# Altium footprint library SamacSys.PcbLib: 128 footprints (part 3 of 8)
Each footprint in its own frame and in the unit in brackets; x right, y up, seen from the top. Pads: shape width x height; smd on the part's side, far side on the other; paste and mask are expansions set on the pad; w line width, h text height; cw(c..) or ccw(c..) is an arc to the next point about the centre after c.
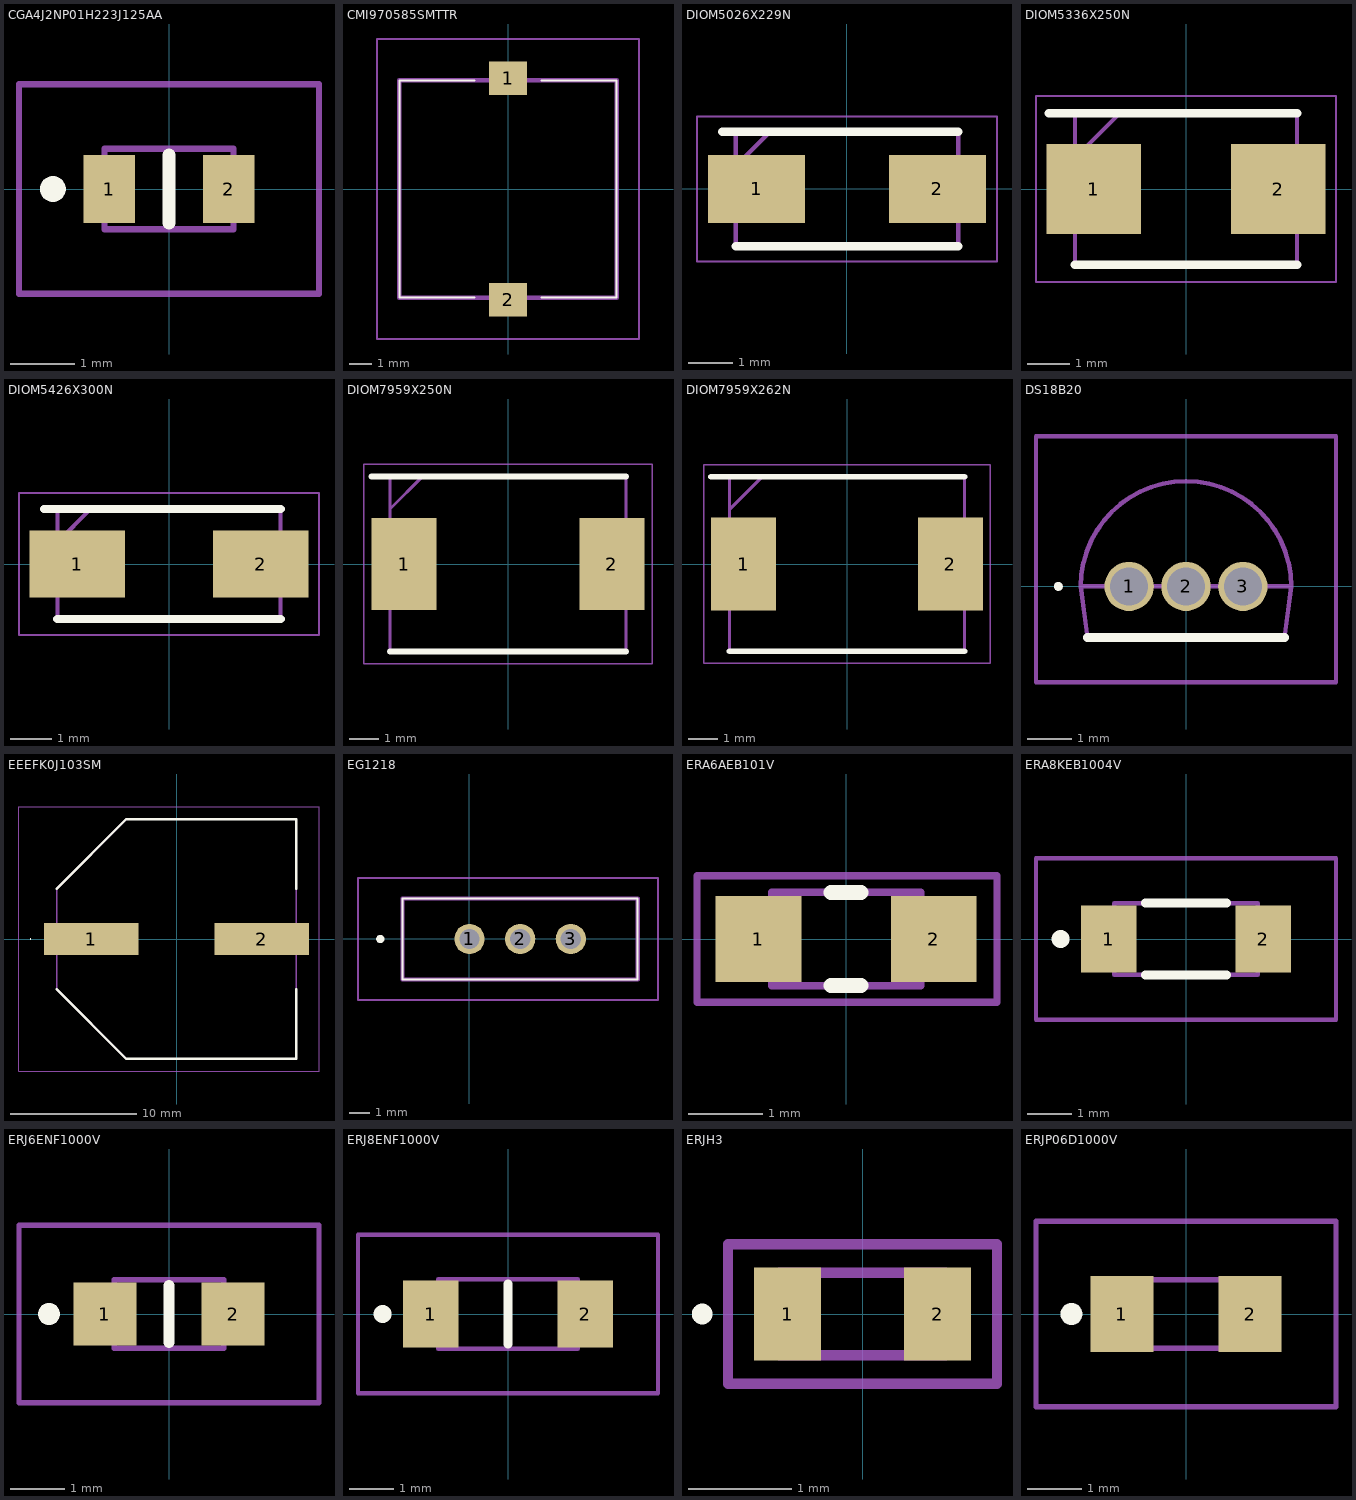
[diagram p2: the footprints below, top view; thin cyan lines are the x and y axes]

## CGA4J2NP01H223J125AA [mm]
pads (2):
  rect 0.8x1.05 smd: 1(-0.925,0) 2(0.925,0)
Top Overlay:
  lines w0.2: 0,-0.525 0,0.525 ; -1.8,-0.1 ccw(c-1.8,0) -1.8,0.1 ccw(c-1.8,0) -1.8,-0.1
Mechanical 13:
  lines w0.1: -1,-0.625 -1,0.625 1,0.625 1,-0.625 -1,-0.625
Mechanical 15:
  lines w0.1: -2.325,-1.625 -2.325,1.625 2.325,1.625 2.325,-1.625 -2.325,-1.625
3D body "CGA4J3X8R1H224K125AB.stp": height 1.45, standoff 0, extent -1,-0.625 1,0.625

## CMI970585SMTTR [mm]
pads (2):
  rect 1.7x1.5 smd: 1(0,4.95) 2(0,-4.95)
Top Overlay:
  lines w0.1: -1.5,-4.85 -4.85,-4.85 -4.85,4.85 -1.5,4.85 ; 1.5,-4.85 4.85,-4.85 4.85,4.85 1.5,4.85
Mechanical 13:
  lines w0.2: -4.85,-4.85 -4.85,4.85 4.85,4.85 4.85,-4.85 -4.85,-4.85
Mechanical 15:
  lines w0.1: -5.85,-6.7 -5.85,6.7 5.85,6.7 5.85,-6.7 -5.85,-6.7
3D body "CMI-9705-85-SMT-TR.stp": height 5.05, standoff -5.05, extent -4.85,-0.2 4.85,5

## DIOM5026X229N [mm]
pads (2):
  rect 2.2x1.55 smd: 1(-2.05,0) 2(2.05,0)
Top Overlay:
  lines w0.2: -2.825,1.298 2.52,1.298 ; -2.52,-1.298 2.52,-1.298
Mechanical 13:
  lines w0.1: -2.52,0.522 -1.745,1.298 ; -2.52,-1.298 -2.52,1.298 2.52,1.298 2.52,-1.298 -2.52,-1.298
Mechanical 15:
  lines w0.05: -3.4,-1.645 -3.4,1.645 3.4,1.645 3.4,-1.645 -3.4,-1.645
3D body "SMAJ26A.stp": height 2.29, standoff 0, extent -2.52,-1.298 2.52,1.298

## DIOM5336X250N [mm]
pads (2):
  rect 2.25x2.15 smd: 1(-2.2,0) 2(2.2,0)
Top Overlay:
  lines w0.2: -3.275,1.81 2.648,1.81 ; -2.648,-1.81 2.648,-1.81
Mechanical 13:
  lines w0.1: -2.648,0.735 -1.572,1.81 ; -2.648,-1.81 -2.648,1.81 2.648,1.81 2.648,-1.81 -2.648,-1.81
Mechanical 15:
  lines w0.05: -3.575,-2.22 -3.575,2.22 3.575,2.22 3.575,-2.22 -3.575,-2.22
3D body "SMBJ14A-13-F.stp": height 2.3, standoff 0, extent -2.679,-1.752 2.681,1.748

## DIOM5426X300N [mm]
pads (2):
  rect 2.3x1.6 smd: 1(-2.2,0) 2(2.2,0)
Top Overlay:
  lines w0.2: -3,1.322 2.68,1.322 ; -2.68,-1.322 2.68,-1.322
Mechanical 13:
  lines w0.1: -2.68,0.522 -1.88,1.322 ; -2.68,-1.322 2.68,-1.322 2.68,1.322 -2.68,1.322 -2.68,-1.322
Mechanical 15:
  lines w0.05: -3.6,-1.7 3.6,-1.7 3.6,1.7 -3.6,1.7 -3.6,-1.7
3D body "RGF1M-E3_67A.stp": height 3, standoff 0, extent -2.68,-1.322 2.68,1.322

## DIOM7959X250N [mm]
pads (2):
  rect 2.2x3.1 smd: 1(-3.5,0) 2(3.5,0)
Top Overlay:
  lines w0.2: -4.6,2.952 3.97,2.952 ; -3.97,-2.952 3.97,-2.952
Mechanical 13:
  lines w0.1: -3.97,1.852 -2.87,2.952 ; -3.97,-2.952 -3.97,2.952 3.97,2.952 3.97,-2.952 -3.97,-2.952
Mechanical 15:
  lines w0.05: -4.85,-3.36 -4.85,3.36 4.85,3.36 4.85,-3.36 -4.85,-3.36
3D body "B560C-13-F.stp": height 2.5, standoff 0, extent -3.97,-2.953 3.97,2.953

## DIOM7959X262N [mm]
pads (2):
  rect 2.2x3.15 smd: 1(-3.5,0) 2(3.5,0)
Top Overlay:
  lines w0.2: -4.6,2.952 3.97,2.952 ; -3.97,-2.952 3.97,-2.952
Mechanical 13:
  lines w0.1: -3.97,1.852 -2.87,2.952 ; -3.97,-2.952 -3.97,2.952 3.97,2.952 3.97,-2.952 -3.97,-2.952
Mechanical 15:
  lines w0.05: -4.85,-3.36 -4.85,3.36 4.85,3.36 4.85,-3.36 -4.85,-3.36
3D body "SSC54-E3_57T.stp": height 2.62, standoff 0, extent -3.97,-2.953 3.97,2.953

## DS18B20 [mm]
pads (3):
  round 1.1 hole 0.85: 1(-1.27,0) 2(0,0) 3(1.27,0)
Top Overlay:
  lines w0.1: -2.9,0 ccw(c-2.85,0) -2.8,0 ccw(c-2.85,0) -2.9,0
  lines w0.2: -2.2,-1.14 2.2,-1.14
Mechanical 13:
  lines w0.1: -2.35,0 cw(c0,0) 2.35,0 ; -2.35,0 -2.2,-1.14 2.2,-1.14 2.35,0 ; -2.35,0 2.35,0
Mechanical 15:
  lines w0.1: -3.35,-2.14 -3.35,3.35 3.35,3.35 3.35,-2.14 -3.35,-2.14
3D body "DS18B20+.stp": height 5.33, standoff -12.7, extent -2.836,-1.1 2.974,3.078

## EEEFK0J103SM [mm]
pads (2):
  rect 7.5x2.5 smd: 1(-6.75,0) 2(6.75,0)
Top Overlay:
  lines w0.05: -11.625,0 cw(c-11.6,0) -11.575,0 cw(c-11.6,0) -11.625,0
  lines w0.2: -9.5,-4 -4,-9.5 9.5,-9.5 9.5,-4 ; -9.5,4 -4,9.5 9.5,9.5 9.5,4
Mechanical 13:
  lines w0.1: -9.5,4 -4,9.5 ; -9.5,4 -9.5,-4 -4,-9.5 9.5,-9.5 9.5,9.5 -4,9.5 ; -9.5,4 -4,9.5
Mechanical 15:
  lines w0.05: -12.5,-10.5 -12.5,10.5 11.3,10.5 11.3,-10.5 -12.5,-10.5
3D body "EEE-FK1V222SM.stp": height 16.5, standoff 0, extent -10.2,-9.5 10.2,9.5

## EG1218 [mm]
pads (3):
  round 1.5 hole 1: 1(0,0) 2(2.5,0) 3(5,0)
Top Overlay:
  lines w0.1: -3.3,-2 -3.3,2 8.3,2 8.3,-2 -3.3,-2
  lines w0.2: -4.5,0 cw(c-4.4,0) -4.3,0 cw(c-4.4,0) -4.5,0
Mechanical 13:
  lines w0.2: -3.3,-2 -3.3,2 8.3,2 8.3,-2 -3.3,-2
Mechanical 15:
  lines w0.1: -5.5,-3 -5.5,3 9.3,3 9.3,-3 -5.5,-3
3D body "EG1218.stp": height 7.14, standoff -4.96, extent -3.31,-2 8.29,2

## ERA6AEB101V [mm]
pads (2):
  rect 1.15x1.15 smd: 1(-1.175,0) 2(1.175,0)
Top Overlay:
  lines w0.2: -0.2,-0.625 0.2,-0.625 ; -0.2,0.625 0.2,0.625
Mechanical 13:
  lines w0.1: -1,-0.625 1,-0.625 1,0.625 -1,0.625 -1,-0.625
Mechanical 15:
  lines w0.1: -2,-0.85 2.025,-0.85 2.025,0.85 -2,0.85 -2,-0.85
3D body "ERA-6AEB1212V.stp": height 0.5, standoff 0, extent -1,-0.625 1,0.625

## ERA8KEB1004V [mm]
pads (2):
  rect 1.25x1.5 smd: 1(-1.725,0) 2(1.725,0)
Top Overlay:
  lines w0.2: -0.9,-0.8 0.9,-0.8 ; -0.9,0.8 0.9,0.8 ; -2.8,-0.1 cw(c-2.8,0) -2.8,0.1 cw(c-2.8,0) -2.8,-0.1
Mechanical 13:
  lines w0.1: -1.6,-0.8 1.6,-0.8 1.6,0.8 -1.6,0.8 -1.6,-0.8
Mechanical 15:
  lines w0.1: -3.35,-1.8 3.35,-1.8 3.35,1.8 -3.35,1.8 -3.35,-1.8
3D body "ERA-8VEB4750V.stp": height 0.65, standoff 0, extent -1.6,-0.8 1.6,0.8

## ERJ6ENF1000V [mm]
pads (2):
  rect 1.15x1.15 smd: 1(-1.175,0) 2(1.175,0)
Top Overlay:
  lines w0.2: 0,-0.525 0,0.525 ; -2.2,-0.1 ccw(c-2.2,0) -2.2,0.1 ccw(c-2.2,0) -2.2,-0.1
Mechanical 13:
  lines w0.1: -1,-0.625 -1,0.625 1,0.625 1,-0.625 -1,-0.625
Mechanical 15:
  lines w0.1: -2.75,-1.625 -2.75,1.625 2.75,1.625 2.75,-1.625 -2.75,-1.625
3D body "ERJ-6ENF2741V.stp": height 0.6, standoff 0, extent -1,-0.625 1,0.625

## ERJ8ENF1000V [mm]
pads (2):
  rect 1.25x1.5 smd: 1(-1.725,0) 2(1.725,0)
Top Overlay:
  lines w0.2: 0,-0.675 0,0.675 ; -2.8,-0.1 cw(c-2.8,0) -2.8,0.1 cw(c-2.8,0) -2.8,-0.1
Mechanical 13:
  lines w0.1: -1.562,-0.775 1.562,-0.775 1.562,0.775 -1.562,0.775 -1.562,-0.775
Mechanical 15:
  lines w0.1: -3.35,-1.775 3.35,-1.775 3.35,1.775 -3.35,1.775 -3.35,-1.775
3D body "ERJ-8ENF33R0V.stp": height 0.6, standoff 0, extent -1.6,-0.8 1.6,0.8

## ERJH3 [mm]
pads (2):
  rect 0.65x0.9 smd: 1(-0.725,0) 2(0.725,0)
Top Overlay:
  lines w0.1: -1.6,0 ccw(c-1.55,0) -1.5,0 ccw(c-1.55,0) -1.6,0
Mechanical 13:
  lines w0.1: -0.8,-0.4 -0.8,0.4 0.8,0.4 0.8,-0.4 -0.8,-0.4
Mechanical 15:
  lines w0.1: -1.3,-0.675 -1.3,0.675 1.3,0.675 1.3,-0.675 -1.3,-0.675
3D body "ERJ-H3EF3012V.stp": height 0.55, standoff 0, extent -0.8,-0.4 0.8,0.4

## ERJP06D1000V [mm]
pads (2):
  rect 1.15x1.4 smd: 1(-1.175,0) 2(1.175,0)
Top Overlay:
  lines w0.2: -2.1,-0.1 ccw(c-2.1,0) -2.1,0.1 ccw(c-2.1,0) -2.1,-0.1
Mechanical 13:
  lines w0.1: -1,-0.625 -1,0.625 1,0.625 1,-0.625 -1,-0.625
Mechanical 15:
  lines w0.1: -2.75,-1.7 -2.75,1.7 2.75,1.7 2.75,-1.7 -2.75,-1.7
3D body "ERJ-P06F2001V.stp": height 0.6, standoff 0, extent -1,-0.625 1,0.625